# Altium footprint library PcbLibArash.PcbLib: 1 footprints
Each footprint in its own frame and in the unit in brackets; x right, y up, seen from the top. Pads: shape width x height; smd on the part's side, far side on the other; paste and mask are expansions set on the pad; w line width, h text height; cw(c..) or ccw(c..) is an arc to the next point about the centre after c.
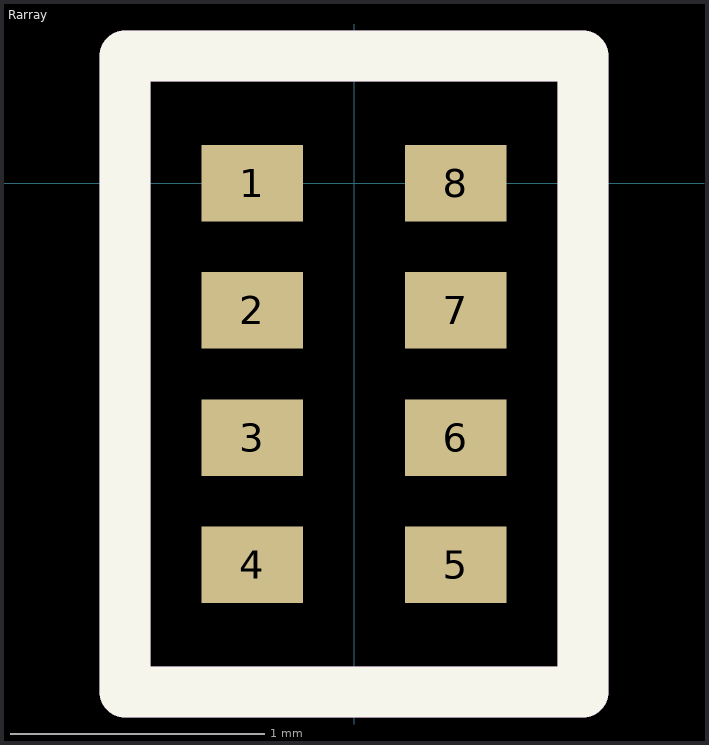
[diagram p0: the footprint, top view; thin cyan lines are the x and y axes]

## Rarray [mm]
pads (8):
  rect 0.4x0.3 smd mask+0.05: 1(-0.4,0) 2(-0.4,-0.5) 3(-0.4,-1) 4(-0.4,-1.5) 5(0.4,-1.5) 6(0.4,-1) 7(0.4,-0.5) 8(0.4,0)
Top Overlay:
  lines w0.2: -0.9,-2 -0.9,0.5 0.9,0.5 0.9,-2 -0.9,-2
Mechanical 29:
  lines w0.2: -0.9,-2 0.9,-2 0.9,0.5 -0.9,0.5 -0.9,-2
  text "'.Designator'" at -0.7,-0.8 h0.3
3D body "EXB-N8V162JX--3DModel-STEP-56544.STEP": height 0.56, standoff 0.01, extent -0.5,-1.75 0.5,0.25